# Altium footprint library QFN_Sq_80P_Side_M.PcbLib: 13 footprints
Each footprint in its own frame and in the unit in brackets; x right, y up, seen from the top. Pads: shape width x height; smd on the part's side, far side on the other; paste and mask are expansions set on the pad; w line width, h text height; cw(c..) or ccw(c..) is an arc to the next point about the centre after c.
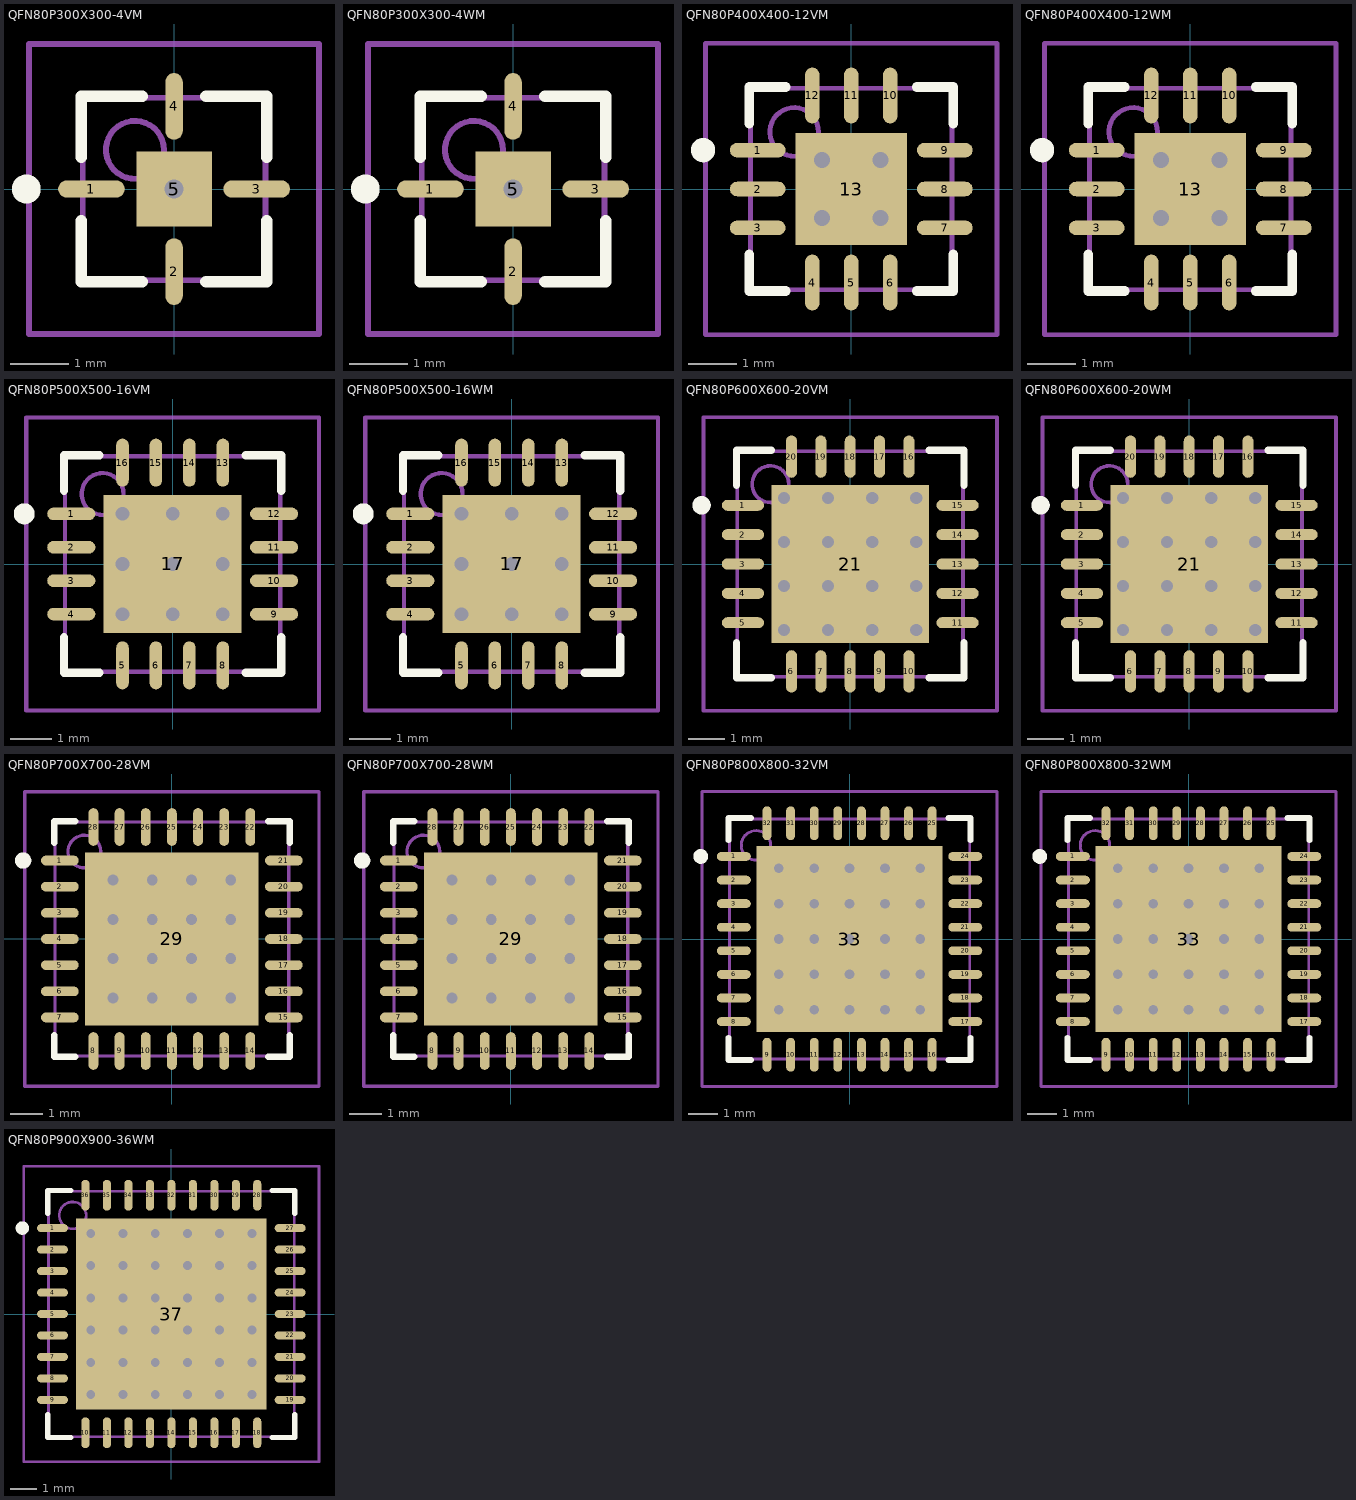
[diagram p0: the footprints below, top view; thin cyan lines are the x and y axes]

## QFN80P300X300-4VM [mm] "QFN, 4-Leads, Body 3x3 mm, Pitch 0.8mm, IPC Low Density"
height 1
pads (5):
  oval 1.15x0.3 smd: 1(-1.425,0) 3(1.425,0)
  oval 0.3x1.15 smd: 2(0,-1.425) 4(0,1.425)
  rect 1.3x1.3 smd: 5(0,0)
via 0,0 diameter 0.66 hole 0.33
Top Overlay:
  circle w0.25: c-2.55,0 r0.125
  lines w0.2: -1.6,-0.55 -1.6,-1.6 -0.55,-1.6 ; -1.6,0.55 -1.6,1.6 -0.55,1.6 ; 0.55,-1.6 1.6,-1.6 1.6,-0.55 ; 0.55,1.6 1.6,1.6 1.6,0.55
Mechanical 13:
  circle w0.1: c-0.675,0.675 r0.5
  lines w0.1: -1.575,-1.575 1.575,-1.575 1.575,1.575 -1.575,1.575 -1.575,-1.575
Mechanical 15:
  lines w0.1: -0.5,0 0.5,0 ; 0,-0.5 0,0.5 ; -2.5,-2.5 2.5,-2.5 2.5,2.5 -2.5,2.5 -2.5,-2.5
3D body: height 1, standoff 0, extent -1.575,-1.575 1.575,1.575

## QFN80P300X300-4WM [mm] "QFN, 4-Leads, Body 3x3 mm, Pitch 0.8mm, IPC Low Density"
height 0.8
pads (5):
  oval 1.15x0.3 smd: 1(-1.425,0) 3(1.425,0)
  oval 0.3x1.15 smd: 2(0,-1.425) 4(0,1.425)
  rect 1.3x1.3 smd: 5(0,0)
via 0,0 diameter 0.66 hole 0.33
Top Overlay:
  circle w0.25: c-2.55,0 r0.125
  lines w0.2: -1.6,-0.55 -1.6,-1.6 -0.55,-1.6 ; -1.6,0.55 -1.6,1.6 -0.55,1.6 ; 0.55,-1.6 1.6,-1.6 1.6,-0.55 ; 0.55,1.6 1.6,1.6 1.6,0.55
Mechanical 13:
  circle w0.1: c-0.675,0.675 r0.5
  lines w0.1: -1.575,-1.575 1.575,-1.575 1.575,1.575 -1.575,1.575 -1.575,-1.575
Mechanical 15:
  lines w0.1: -0.5,0 0.5,0 ; 0,-0.5 0,0.5 ; -2.5,-2.5 2.5,-2.5 2.5,2.5 -2.5,2.5 -2.5,-2.5
3D body: height 0.8, standoff 0, extent -1.575,-1.575 1.575,1.575

## QFN80P400X400-12VM [mm] "QFN, 12-Leads, Body 4x4 mm, Pitch 0.8mm, IPC Low Density"
height 1
pads (13):
  oval 1.15x0.3 smd: 1(-1.925,0.8) 2(-1.925,0) 3(-1.925,-0.8) 7(1.925,-0.8) 8(1.925,0) 9(1.925,0.8)
  oval 0.3x1.15 smd: 4(-0.8,-1.925) 5(0,-1.925) 6(0.8,-1.925) 10(0.8,1.925) 11(0,1.925) 12(-0.8,1.925)
  rect 2.3x2.3 smd: 13(0,0)
via 0.6,-0.6 diameter 0.66 hole 0.33
via -0.6,-0.6 diameter 0.66 hole 0.33
via 0.6,0.6 diameter 0.66 hole 0.33
via -0.6,0.6 diameter 0.66 hole 0.33
Top Overlay:
  circle w0.25: c-3.05,0.8 r0.125
  lines w0.2: -2.1,-1.35 -2.1,-2.1 -1.35,-2.1 ; -2.1,1.35 -2.1,2.1 -1.35,2.1 ; 1.35,-2.1 2.1,-2.1 2.1,-1.35 ; 1.35,2.1 2.1,2.1 2.1,1.35
Mechanical 13:
  circle w0.1: c-1.175,1.175 r0.5
  lines w0.1: -2.075,-2.075 2.075,-2.075 2.075,2.075 -2.075,2.075 -2.075,-2.075
Mechanical 15:
  lines w0.1: -0.5,0 0.5,0 ; 0,-0.5 0,0.5 ; -3,-3 3,-3 3,3 -3,3 -3,-3
3D body: height 1, standoff 0, extent -2.075,-2.075 2.075,2.075

## QFN80P400X400-12WM [mm] "QFN, 12-Leads, Body 4x4 mm, Pitch 0.8mm, IPC Low Density"
height 0.8
pads (13):
  oval 1.15x0.3 smd: 1(-1.925,0.8) 2(-1.925,0) 3(-1.925,-0.8) 7(1.925,-0.8) 8(1.925,0) 9(1.925,0.8)
  oval 0.3x1.15 smd: 4(-0.8,-1.925) 5(0,-1.925) 6(0.8,-1.925) 10(0.8,1.925) 11(0,1.925) 12(-0.8,1.925)
  rect 2.3x2.3 smd: 13(0,0)
via 0.6,-0.6 diameter 0.66 hole 0.33
via -0.6,-0.6 diameter 0.66 hole 0.33
via 0.6,0.6 diameter 0.66 hole 0.33
via -0.6,0.6 diameter 0.66 hole 0.33
Top Overlay:
  circle w0.25: c-3.05,0.8 r0.125
  lines w0.2: -2.1,-1.35 -2.1,-2.1 -1.35,-2.1 ; -2.1,1.35 -2.1,2.1 -1.35,2.1 ; 1.35,-2.1 2.1,-2.1 2.1,-1.35 ; 1.35,2.1 2.1,2.1 2.1,1.35
Mechanical 13:
  circle w0.1: c-1.175,1.175 r0.5
  lines w0.1: -2.075,-2.075 2.075,-2.075 2.075,2.075 -2.075,2.075 -2.075,-2.075
Mechanical 15:
  lines w0.1: -0.5,0 0.5,0 ; 0,-0.5 0,0.5 ; -3,-3 3,-3 3,3 -3,3 -3,-3
3D body: height 0.8, standoff 0, extent -2.075,-2.075 2.075,2.075

## QFN80P500X500-16VM [mm] "QFN, 16-Leads, Body 5x5 mm, Pitch 0.8mm, IPC Low Density"
height 1
pads (17):
  oval 1.15x0.3 smd: 1(-2.425,1.2) 2(-2.425,0.4) 3(-2.425,-0.4) 4(-2.425,-1.2) 9(2.425,-1.2) 10(2.425,-0.4) 11(2.425,0.4) 12(2.425,1.2)
  oval 0.3x1.15 smd: 5(-1.2,-2.425) 6(-0.4,-2.425) 7(0.4,-2.425) 8(1.2,-2.425) 13(1.2,2.425) 14(0.4,2.425) 15(-0.4,2.425) 16(-1.2,2.425)
  rect 3.3x3.3 smd: 17(0,0)
via 1.2,-1.2 diameter 0.66 hole 0.33
via 0,-1.2 diameter 0.66 hole 0.33
via -1.2,-1.2 diameter 0.66 hole 0.33
via 1.2,0 diameter 0.66 hole 0.33
via 0,0 diameter 0.66 hole 0.33
via -1.2,0 diameter 0.66 hole 0.33
via 1.2,1.2 diameter 0.66 hole 0.33
via 0,1.2 diameter 0.66 hole 0.33
via -1.2,1.2 diameter 0.66 hole 0.33
Top Overlay:
  circle w0.25: c-3.55,1.2 r0.125
  lines w0.2: -2.6,-1.75 -2.6,-2.6 -1.75,-2.6 ; -2.6,1.75 -2.6,2.6 -1.75,2.6 ; 1.75,-2.6 2.6,-2.6 2.6,-1.75 ; 1.75,2.6 2.6,2.6 2.6,1.75
Mechanical 13:
  circle w0.1: c-1.675,1.675 r0.5
  lines w0.1: -2.575,-2.575 2.575,-2.575 2.575,2.575 -2.575,2.575 -2.575,-2.575
Mechanical 15:
  lines w0.1: -0.5,0 0.5,0 ; 0,-0.5 0,0.5 ; -3.5,-3.5 3.5,-3.5 3.5,3.5 -3.5,3.5 -3.5,-3.5
3D body: height 1, standoff 0, extent -2.575,-2.575 2.575,2.575

## QFN80P500X500-16WM [mm] "QFN, 16-Leads, Body 5x5 mm, Pitch 0.8mm, IPC Low Density"
height 0.8
pads (17):
  oval 1.15x0.3 smd: 1(-2.425,1.2) 2(-2.425,0.4) 3(-2.425,-0.4) 4(-2.425,-1.2) 9(2.425,-1.2) 10(2.425,-0.4) 11(2.425,0.4) 12(2.425,1.2)
  oval 0.3x1.15 smd: 5(-1.2,-2.425) 6(-0.4,-2.425) 7(0.4,-2.425) 8(1.2,-2.425) 13(1.2,2.425) 14(0.4,2.425) 15(-0.4,2.425) 16(-1.2,2.425)
  rect 3.3x3.3 smd: 17(0,0)
via 1.2,-1.2 diameter 0.66 hole 0.33
via 0,-1.2 diameter 0.66 hole 0.33
via -1.2,-1.2 diameter 0.66 hole 0.33
via 1.2,0 diameter 0.66 hole 0.33
via 0,0 diameter 0.66 hole 0.33
via -1.2,0 diameter 0.66 hole 0.33
via 1.2,1.2 diameter 0.66 hole 0.33
via 0,1.2 diameter 0.66 hole 0.33
via -1.2,1.2 diameter 0.66 hole 0.33
Top Overlay:
  circle w0.25: c-3.55,1.2 r0.125
  lines w0.2: -2.6,-1.75 -2.6,-2.6 -1.75,-2.6 ; -2.6,1.75 -2.6,2.6 -1.75,2.6 ; 1.75,-2.6 2.6,-2.6 2.6,-1.75 ; 1.75,2.6 2.6,2.6 2.6,1.75
Mechanical 13:
  circle w0.1: c-1.675,1.675 r0.5
  lines w0.1: -2.575,-2.575 2.575,-2.575 2.575,2.575 -2.575,2.575 -2.575,-2.575
Mechanical 15:
  lines w0.1: -0.5,0 0.5,0 ; 0,-0.5 0,0.5 ; -3.5,-3.5 3.5,-3.5 3.5,3.5 -3.5,3.5 -3.5,-3.5
3D body: height 0.8, standoff 0, extent -2.575,-2.575 2.575,2.575

## QFN80P600X600-20VM [mm] "QFN, 20-Leads, Body 6x6 mm, Pitch 0.8mm, IPC Low Density"
height 1
pads (21):
  oval 1.15x0.3 smd: 1(-2.925,1.6) 2(-2.925,0.8) 3(-2.925,0) 4(-2.925,-0.8) 5(-2.925,-1.6) 11(2.925,-1.6) 12(2.925,-0.8) 13(2.925,0) 14(2.925,0.8) 15(2.925,1.6)
  oval 0.3x1.15 smd: 6(-1.6,-2.925) 7(-0.8,-2.925) 8(0,-2.925) 9(0.8,-2.925) 10(1.6,-2.925) 16(1.6,2.925) 17(0.8,2.925) 18(0,2.925) 19(-0.8,2.925) 20(-1.6,2.925)
  rect 4.3x4.3 smd: 21(0,0)
via 1.8,-1.8 diameter 0.66 hole 0.33
via 0.6,-1.8 diameter 0.66 hole 0.33
via -0.6,-1.8 diameter 0.66 hole 0.33
via -1.8,-1.8 diameter 0.66 hole 0.33
via 1.8,-0.6 diameter 0.66 hole 0.33
via 0.6,-0.6 diameter 0.66 hole 0.33
via -0.6,-0.6 diameter 0.66 hole 0.33
via -1.8,-0.6 diameter 0.66 hole 0.33
via 1.8,0.6 diameter 0.66 hole 0.33
via 0.6,0.6 diameter 0.66 hole 0.33
via -0.6,0.6 diameter 0.66 hole 0.33
via -1.8,0.6 diameter 0.66 hole 0.33
via 1.8,1.8 diameter 0.66 hole 0.33
via 0.6,1.8 diameter 0.66 hole 0.33
via -0.6,1.8 diameter 0.66 hole 0.33
via -1.8,1.8 diameter 0.66 hole 0.33
Top Overlay:
  circle w0.25: c-4.05,1.6 r0.125
  lines w0.2: -3.1,-2.15 -3.1,-3.1 -2.15,-3.1 ; -3.1,2.15 -3.1,3.1 -2.15,3.1 ; 2.15,-3.1 3.1,-3.1 3.1,-2.15 ; 2.15,3.1 3.1,3.1 3.1,2.15
Mechanical 13:
  circle w0.1: c-2.175,2.175 r0.5
  lines w0.1: -3.075,-3.075 3.075,-3.075 3.075,3.075 -3.075,3.075 -3.075,-3.075
Mechanical 15:
  lines w0.1: -0.5,0 0.5,0 ; 0,-0.5 0,0.5 ; -4,-4 4,-4 4,4 -4,4 -4,-4
3D body: height 1, standoff 0, extent -3.075,-3.075 3.075,3.075

## QFN80P600X600-20WM [mm] "QFN, 20-Leads, Body 6x6 mm, Pitch 0.8mm, IPC Low Density"
height 0.8
pads (21):
  oval 1.15x0.3 smd: 1(-2.925,1.6) 2(-2.925,0.8) 3(-2.925,0) 4(-2.925,-0.8) 5(-2.925,-1.6) 11(2.925,-1.6) 12(2.925,-0.8) 13(2.925,0) 14(2.925,0.8) 15(2.925,1.6)
  oval 0.3x1.15 smd: 6(-1.6,-2.925) 7(-0.8,-2.925) 8(0,-2.925) 9(0.8,-2.925) 10(1.6,-2.925) 16(1.6,2.925) 17(0.8,2.925) 18(0,2.925) 19(-0.8,2.925) 20(-1.6,2.925)
  rect 4.3x4.3 smd: 21(0,0)
via -1.8,1.8 diameter 0.66 hole 0.33
via -0.6,1.8 diameter 0.66 hole 0.33
via 0.6,1.8 diameter 0.66 hole 0.33
via 1.8,1.8 diameter 0.66 hole 0.33
via -1.8,0.6 diameter 0.66 hole 0.33
via -0.6,0.6 diameter 0.66 hole 0.33
via 0.6,0.6 diameter 0.66 hole 0.33
via 1.8,0.6 diameter 0.66 hole 0.33
via -1.8,-0.6 diameter 0.66 hole 0.33
via -0.6,-0.6 diameter 0.66 hole 0.33
via 0.6,-0.6 diameter 0.66 hole 0.33
via 1.8,-0.6 diameter 0.66 hole 0.33
via -1.8,-1.8 diameter 0.66 hole 0.33
via -0.6,-1.8 diameter 0.66 hole 0.33
via 0.6,-1.8 diameter 0.66 hole 0.33
via 1.8,-1.8 diameter 0.66 hole 0.33
Top Overlay:
  circle w0.25: c-4.05,1.6 r0.125
  lines w0.2: -3.1,-2.15 -3.1,-3.1 -2.15,-3.1 ; -3.1,2.15 -3.1,3.1 -2.15,3.1 ; 2.15,-3.1 3.1,-3.1 3.1,-2.15 ; 2.15,3.1 3.1,3.1 3.1,2.15
Mechanical 13:
  circle w0.1: c-2.175,2.175 r0.5
  lines w0.1: -3.075,-3.075 -3.075,3.075 3.075,3.075 3.075,-3.075 -3.075,-3.075
Mechanical 15:
  lines w0.1: -0.5,0 0.5,0 ; 0,-0.5 0,0.5 ; -4,-4 -4,4 4,4 4,-4 -4,-4
3D body: height 0.8, standoff 0, extent -3.075,-3.075 3.075,3.075

## QFN80P700X700-28VM [mm] "QFN, 28-Leads, Body 7x7 mm, Pitch 0.8mm, IPC Low Density"
height 1
pads (29):
  oval 1.15x0.3 smd: 1(-3.425,2.4) 2(-3.425,1.6) 3(-3.425,0.8) 4(-3.425,0) 5(-3.425,-0.8) 6(-3.425,-1.6) 7(-3.425,-2.4) 15(3.425,-2.4) 16(3.425,-1.6) 17(3.425,-0.8) 18(3.425,0) 19(3.425,0.8) 20(3.425,1.6) 21(3.425,2.4)
  oval 0.3x1.15 smd: 8(-2.4,-3.425) 9(-1.6,-3.425) 10(-0.8,-3.425) 11(0,-3.425) 12(0.8,-3.425) 13(1.6,-3.425) 14(2.4,-3.425) 22(2.4,3.425) 23(1.6,3.425) 24(0.8,3.425) 25(0,3.425) 26(-0.8,3.425) 27(-1.6,3.425) 28(-2.4,3.425)
  rect 5.3x5.3 smd: 29(0,0)
via 1.8,-1.8 diameter 0.66 hole 0.33
via 0.6,-1.8 diameter 0.66 hole 0.33
via -0.6,-1.8 diameter 0.66 hole 0.33
via -1.8,-1.8 diameter 0.66 hole 0.33
via 1.8,-0.6 diameter 0.66 hole 0.33
via 0.6,-0.6 diameter 0.66 hole 0.33
via -0.6,-0.6 diameter 0.66 hole 0.33
via -1.8,-0.6 diameter 0.66 hole 0.33
via 1.8,0.6 diameter 0.66 hole 0.33
via 0.6,0.6 diameter 0.66 hole 0.33
via -0.6,0.6 diameter 0.66 hole 0.33
via -1.8,0.6 diameter 0.66 hole 0.33
via 1.8,1.8 diameter 0.66 hole 0.33
via 0.6,1.8 diameter 0.66 hole 0.33
via -0.6,1.8 diameter 0.66 hole 0.33
via -1.8,1.8 diameter 0.66 hole 0.33
Top Overlay:
  circle w0.25: c-4.55,2.4 r0.125
  lines w0.2: -3.6,-2.95 -3.6,-3.6 -2.95,-3.6 ; -3.6,2.95 -3.6,3.6 -2.95,3.6 ; 2.95,-3.6 3.6,-3.6 3.6,-2.95 ; 2.95,3.6 3.6,3.6 3.6,2.95
Mechanical 13:
  circle w0.1: c-2.675,2.675 r0.5
  lines w0.1: -3.575,-3.575 3.575,-3.575 3.575,3.575 -3.575,3.575 -3.575,-3.575
Mechanical 15:
  lines w0.1: -0.5,0 0.5,0 ; 0,-0.5 0,0.5 ; -4.5,-4.5 4.5,-4.5 4.5,4.5 -4.5,4.5 -4.5,-4.5
3D body: height 1, standoff 0, extent -3.575,-3.575 3.575,3.575

## QFN80P700X700-28WM [mm] "QFN, 28-Leads, Body 7x7 mm, Pitch 0.8mm, IPC Low Density"
height 0.8
pads (29):
  oval 1.15x0.3 smd: 1(-3.425,2.4) 2(-3.425,1.6) 3(-3.425,0.8) 4(-3.425,0) 5(-3.425,-0.8) 6(-3.425,-1.6) 7(-3.425,-2.4) 15(3.425,-2.4) 16(3.425,-1.6) 17(3.425,-0.8) 18(3.425,0) 19(3.425,0.8) 20(3.425,1.6) 21(3.425,2.4)
  oval 0.3x1.15 smd: 8(-2.4,-3.425) 9(-1.6,-3.425) 10(-0.8,-3.425) 11(0,-3.425) 12(0.8,-3.425) 13(1.6,-3.425) 14(2.4,-3.425) 22(2.4,3.425) 23(1.6,3.425) 24(0.8,3.425) 25(0,3.425) 26(-0.8,3.425) 27(-1.6,3.425) 28(-2.4,3.425)
  rect 5.3x5.3 smd: 29(0,0)
via 1.8,-1.8 diameter 0.66 hole 0.33
via 0.6,-1.8 diameter 0.66 hole 0.33
via -0.6,-1.8 diameter 0.66 hole 0.33
via -1.8,-1.8 diameter 0.66 hole 0.33
via 1.8,-0.6 diameter 0.66 hole 0.33
via 0.6,-0.6 diameter 0.66 hole 0.33
via -0.6,-0.6 diameter 0.66 hole 0.33
via -1.8,-0.6 diameter 0.66 hole 0.33
via 1.8,0.6 diameter 0.66 hole 0.33
via 0.6,0.6 diameter 0.66 hole 0.33
via -0.6,0.6 diameter 0.66 hole 0.33
via -1.8,0.6 diameter 0.66 hole 0.33
via 1.8,1.8 diameter 0.66 hole 0.33
via 0.6,1.8 diameter 0.66 hole 0.33
via -0.6,1.8 diameter 0.66 hole 0.33
via -1.8,1.8 diameter 0.66 hole 0.33
Top Overlay:
  circle w0.25: c-4.55,2.4 r0.125
  lines w0.2: -3.6,-2.95 -3.6,-3.6 -2.95,-3.6 ; -3.6,2.95 -3.6,3.6 -2.95,3.6 ; 2.95,-3.6 3.6,-3.6 3.6,-2.95 ; 2.95,3.6 3.6,3.6 3.6,2.95
Mechanical 13:
  circle w0.1: c-2.675,2.675 r0.5
  lines w0.1: -3.575,-3.575 3.575,-3.575 3.575,3.575 -3.575,3.575 -3.575,-3.575
Mechanical 15:
  lines w0.1: -0.5,0 0.5,0 ; 0,-0.5 0,0.5 ; -4.5,-4.5 4.5,-4.5 4.5,4.5 -4.5,4.5 -4.5,-4.5
3D body: height 0.8, standoff 0, extent -3.575,-3.575 3.575,3.575

## QFN80P800X800-32VM [mm] "QFN, 32-Leads, Body 8x8 mm, Pitch 0.8mm, IPC Low Density"
height 1
pads (33):
  oval 1.15x0.3 smd: 1(-3.925,2.8) 2(-3.925,2) 3(-3.925,1.2) 4(-3.925,0.4) 5(-3.925,-0.4) 6(-3.925,-1.2) 7(-3.925,-2) 8(-3.925,-2.8) 17(3.925,-2.8) 18(3.925,-2) 19(3.925,-1.2) 20(3.925,-0.4) 21(3.925,0.4) 22(3.925,1.2) 23(3.925,2) 24(3.925,2.8)
  oval 0.3x1.15 smd: 9(-2.8,-3.925) 10(-2,-3.925) 11(-1.2,-3.925) 12(-0.4,-3.925) 13(0.4,-3.925) 14(1.2,-3.925) 15(2,-3.925) 16(2.8,-3.925) 25(2.8,3.925) 26(2,3.925) 27(1.2,3.925) 28(0.4,3.925) 29(-0.4,3.925) 30(-1.2,3.925) 31(-2,3.925) 32(-2.8,3.925)
  rect 6.3x6.3 smd: 33(0,0)
via 2.4,-2.4 diameter 0.66 hole 0.33
via 1.2,-2.4 diameter 0.66 hole 0.33
via 0,-2.4 diameter 0.66 hole 0.33
via -1.2,-2.4 diameter 0.66 hole 0.33
via -2.4,-2.4 diameter 0.66 hole 0.33
via 2.4,-1.2 diameter 0.66 hole 0.33
via 1.2,-1.2 diameter 0.66 hole 0.33
via 0,-1.2 diameter 0.66 hole 0.33
via -1.2,-1.2 diameter 0.66 hole 0.33
via -2.4,-1.2 diameter 0.66 hole 0.33
via 2.4,0 diameter 0.66 hole 0.33
via 1.2,0 diameter 0.66 hole 0.33
via 0,0 diameter 0.66 hole 0.33
via -1.2,0 diameter 0.66 hole 0.33
via -2.4,0 diameter 0.66 hole 0.33
via 2.4,1.2 diameter 0.66 hole 0.33
via 1.2,1.2 diameter 0.66 hole 0.33
via 0,1.2 diameter 0.66 hole 0.33
via -1.2,1.2 diameter 0.66 hole 0.33
via -2.4,1.2 diameter 0.66 hole 0.33
via 2.4,2.4 diameter 0.66 hole 0.33
via 1.2,2.4 diameter 0.66 hole 0.33
via 0,2.4 diameter 0.66 hole 0.33
via -1.2,2.4 diameter 0.66 hole 0.33
via -2.4,2.4 diameter 0.66 hole 0.33
Top Overlay:
  circle w0.25: c-5.05,2.8 r0.125
  lines w0.2: -4.1,-3.35 -4.1,-4.1 -3.35,-4.1 ; -4.1,3.35 -4.1,4.1 -3.35,4.1 ; 3.35,-4.1 4.1,-4.1 4.1,-3.35 ; 3.35,4.1 4.1,4.1 4.1,3.35
Mechanical 13:
  circle w0.1: c-3.175,3.175 r0.5
  lines w0.1: -4.075,-4.075 4.075,-4.075 4.075,4.075 -4.075,4.075 -4.075,-4.075
Mechanical 15:
  lines w0.1: -0.5,0 0.5,0 ; 0,-0.5 0,0.5 ; -5,-5 5,-5 5,5 -5,5 -5,-5
3D body: height 1, standoff 0, extent -4.075,-4.075 4.075,4.075

## QFN80P800X800-32WM [mm] "QFN, 32-Leads, Body 8x8 mm, Pitch 0.8mm, IPC Low Density"
height 0.8
pads (33):
  oval 1.15x0.3 smd: 1(-3.925,2.8) 2(-3.925,2) 3(-3.925,1.2) 4(-3.925,0.4) 5(-3.925,-0.4) 6(-3.925,-1.2) 7(-3.925,-2) 8(-3.925,-2.8) 17(3.925,-2.8) 18(3.925,-2) 19(3.925,-1.2) 20(3.925,-0.4) 21(3.925,0.4) 22(3.925,1.2) 23(3.925,2) 24(3.925,2.8)
  oval 0.3x1.15 smd: 9(-2.8,-3.925) 10(-2,-3.925) 11(-1.2,-3.925) 12(-0.4,-3.925) 13(0.4,-3.925) 14(1.2,-3.925) 15(2,-3.925) 16(2.8,-3.925) 25(2.8,3.925) 26(2,3.925) 27(1.2,3.925) 28(0.4,3.925) 29(-0.4,3.925) 30(-1.2,3.925) 31(-2,3.925) 32(-2.8,3.925)
  rect 6.3x6.3 smd: 33(0,0)
via 2.4,-2.4 diameter 0.66 hole 0.33
via 1.2,-2.4 diameter 0.66 hole 0.33
via 0,-2.4 diameter 0.66 hole 0.33
via -1.2,-2.4 diameter 0.66 hole 0.33
via -2.4,-2.4 diameter 0.66 hole 0.33
via 2.4,-1.2 diameter 0.66 hole 0.33
via 1.2,-1.2 diameter 0.66 hole 0.33
via 0,-1.2 diameter 0.66 hole 0.33
via -1.2,-1.2 diameter 0.66 hole 0.33
via -2.4,-1.2 diameter 0.66 hole 0.33
via 2.4,0 diameter 0.66 hole 0.33
via 1.2,0 diameter 0.66 hole 0.33
via 0,0 diameter 0.66 hole 0.33
via -1.2,0 diameter 0.66 hole 0.33
via -2.4,0 diameter 0.66 hole 0.33
via 2.4,1.2 diameter 0.66 hole 0.33
via 1.2,1.2 diameter 0.66 hole 0.33
via 0,1.2 diameter 0.66 hole 0.33
via -1.2,1.2 diameter 0.66 hole 0.33
via -2.4,1.2 diameter 0.66 hole 0.33
via 2.4,2.4 diameter 0.66 hole 0.33
via 1.2,2.4 diameter 0.66 hole 0.33
via 0,2.4 diameter 0.66 hole 0.33
via -1.2,2.4 diameter 0.66 hole 0.33
via -2.4,2.4 diameter 0.66 hole 0.33
Top Overlay:
  circle w0.25: c-5.05,2.8 r0.125
  lines w0.2: -4.1,-3.35 -4.1,-4.1 -3.35,-4.1 ; -4.1,3.35 -4.1,4.1 -3.35,4.1 ; 3.35,-4.1 4.1,-4.1 4.1,-3.35 ; 3.35,4.1 4.1,4.1 4.1,3.35
Mechanical 13:
  circle w0.1: c-3.175,3.175 r0.5
  lines w0.1: -4.075,-4.075 4.075,-4.075 4.075,4.075 -4.075,4.075 -4.075,-4.075
Mechanical 15:
  lines w0.1: -0.5,0 0.5,0 ; 0,-0.5 0,0.5 ; -5,-5 5,-5 5,5 -5,5 -5,-5
3D body: height 0.8, standoff 0, extent -4.075,-4.075 4.075,4.075

## QFN80P900X900-36WM [mm] "QFN, 36-Leads, Body 9x9 mm, Pitch 0.8mm, IPC Low Density"
height 0.8
pads (37):
  oval 1.15x0.3 smd: 1(-4.425,3.2) 2(-4.425,2.4) 3(-4.425,1.6) 4(-4.425,0.8) 5(-4.425,0) 6(-4.425,-0.8) 7(-4.425,-1.6) 8(-4.425,-2.4) 9(-4.425,-3.2) 19(4.425,-3.2) 20(4.425,-2.4) 21(4.425,-1.6) 22(4.425,-0.8) 23(4.425,0) 24(4.425,0.8) 25(4.425,1.6) 26(4.425,2.4) 27(4.425,3.2)
  oval 0.3x1.15 smd: 10(-3.2,-4.425) 11(-2.4,-4.425) 12(-1.6,-4.425) 13(-0.8,-4.425) 14(0,-4.425) 15(0.8,-4.425) 16(1.6,-4.425) 17(2.4,-4.425) 18(3.2,-4.425) 28(3.2,4.425) 29(2.4,4.425) 30(1.6,4.425) 31(0.8,4.425) 32(0,4.425) 33(-0.8,4.425) 34(-1.6,4.425) 35(-2.4,4.425) 36(-3.2,4.425)
  rect 7.1x7.1 smd: 37(0,0)
via 3,-3 diameter 0.66 hole 0.33
via 1.8,-3 diameter 0.66 hole 0.33
via 0.6,-3 diameter 0.66 hole 0.33
via -0.6,-3 diameter 0.66 hole 0.33
via -1.8,-3 diameter 0.66 hole 0.33
via -3,-3 diameter 0.66 hole 0.33
via 3,-1.8 diameter 0.66 hole 0.33
via 1.8,-1.8 diameter 0.66 hole 0.33
via 0.6,-1.8 diameter 0.66 hole 0.33
via -0.6,-1.8 diameter 0.66 hole 0.33
via -1.8,-1.8 diameter 0.66 hole 0.33
via -3,-1.8 diameter 0.66 hole 0.33
via 3,-0.6 diameter 0.66 hole 0.33
via 1.8,-0.6 diameter 0.66 hole 0.33
via 0.6,-0.6 diameter 0.66 hole 0.33
via -0.6,-0.6 diameter 0.66 hole 0.33
via -1.8,-0.6 diameter 0.66 hole 0.33
via -3,-0.6 diameter 0.66 hole 0.33
via 3,0.6 diameter 0.66 hole 0.33
via 1.8,0.6 diameter 0.66 hole 0.33
via 0.6,0.6 diameter 0.66 hole 0.33
via -0.6,0.6 diameter 0.66 hole 0.33
via -1.8,0.6 diameter 0.66 hole 0.33
via -3,0.6 diameter 0.66 hole 0.33
via 3,1.8 diameter 0.66 hole 0.33
via 1.8,1.8 diameter 0.66 hole 0.33
via 0.6,1.8 diameter 0.66 hole 0.33
via -0.6,1.8 diameter 0.66 hole 0.33
via -1.8,1.8 diameter 0.66 hole 0.33
via -3,1.8 diameter 0.66 hole 0.33
via 3,3 diameter 0.66 hole 0.33
via 1.8,3 diameter 0.66 hole 0.33
via 0.6,3 diameter 0.66 hole 0.33
via -0.6,3 diameter 0.66 hole 0.33
via -1.8,3 diameter 0.66 hole 0.33
via -3,3 diameter 0.66 hole 0.33
Top Overlay:
  circle w0.25: c-5.55,3.2 r0.125
  lines w0.2: -4.6,-3.75 -4.6,-4.6 -3.75,-4.6 ; -4.6,3.75 -4.6,4.6 -3.75,4.6 ; 3.75,-4.6 4.6,-4.6 4.6,-3.75 ; 3.75,4.6 4.6,4.6 4.6,3.75
Mechanical 13:
  circle w0.1: c-3.675,3.675 r0.5
  lines w0.1: -4.575,-4.575 4.575,-4.575 4.575,4.575 -4.575,4.575 -4.575,-4.575
Mechanical 15:
  lines w0.1: -0.5,0 0.5,0 ; 0,-0.5 0,0.5 ; -5.5,-5.5 5.5,-5.5 5.5,5.5 -5.5,5.5 -5.5,-5.5
3D body: height 0.8, standoff 0, extent -4.575,-4.575 4.575,4.575